# Altium integrated library Micron Memory Parallel NOR Flash.IntLib: 720 symbols (part 140 of 216)
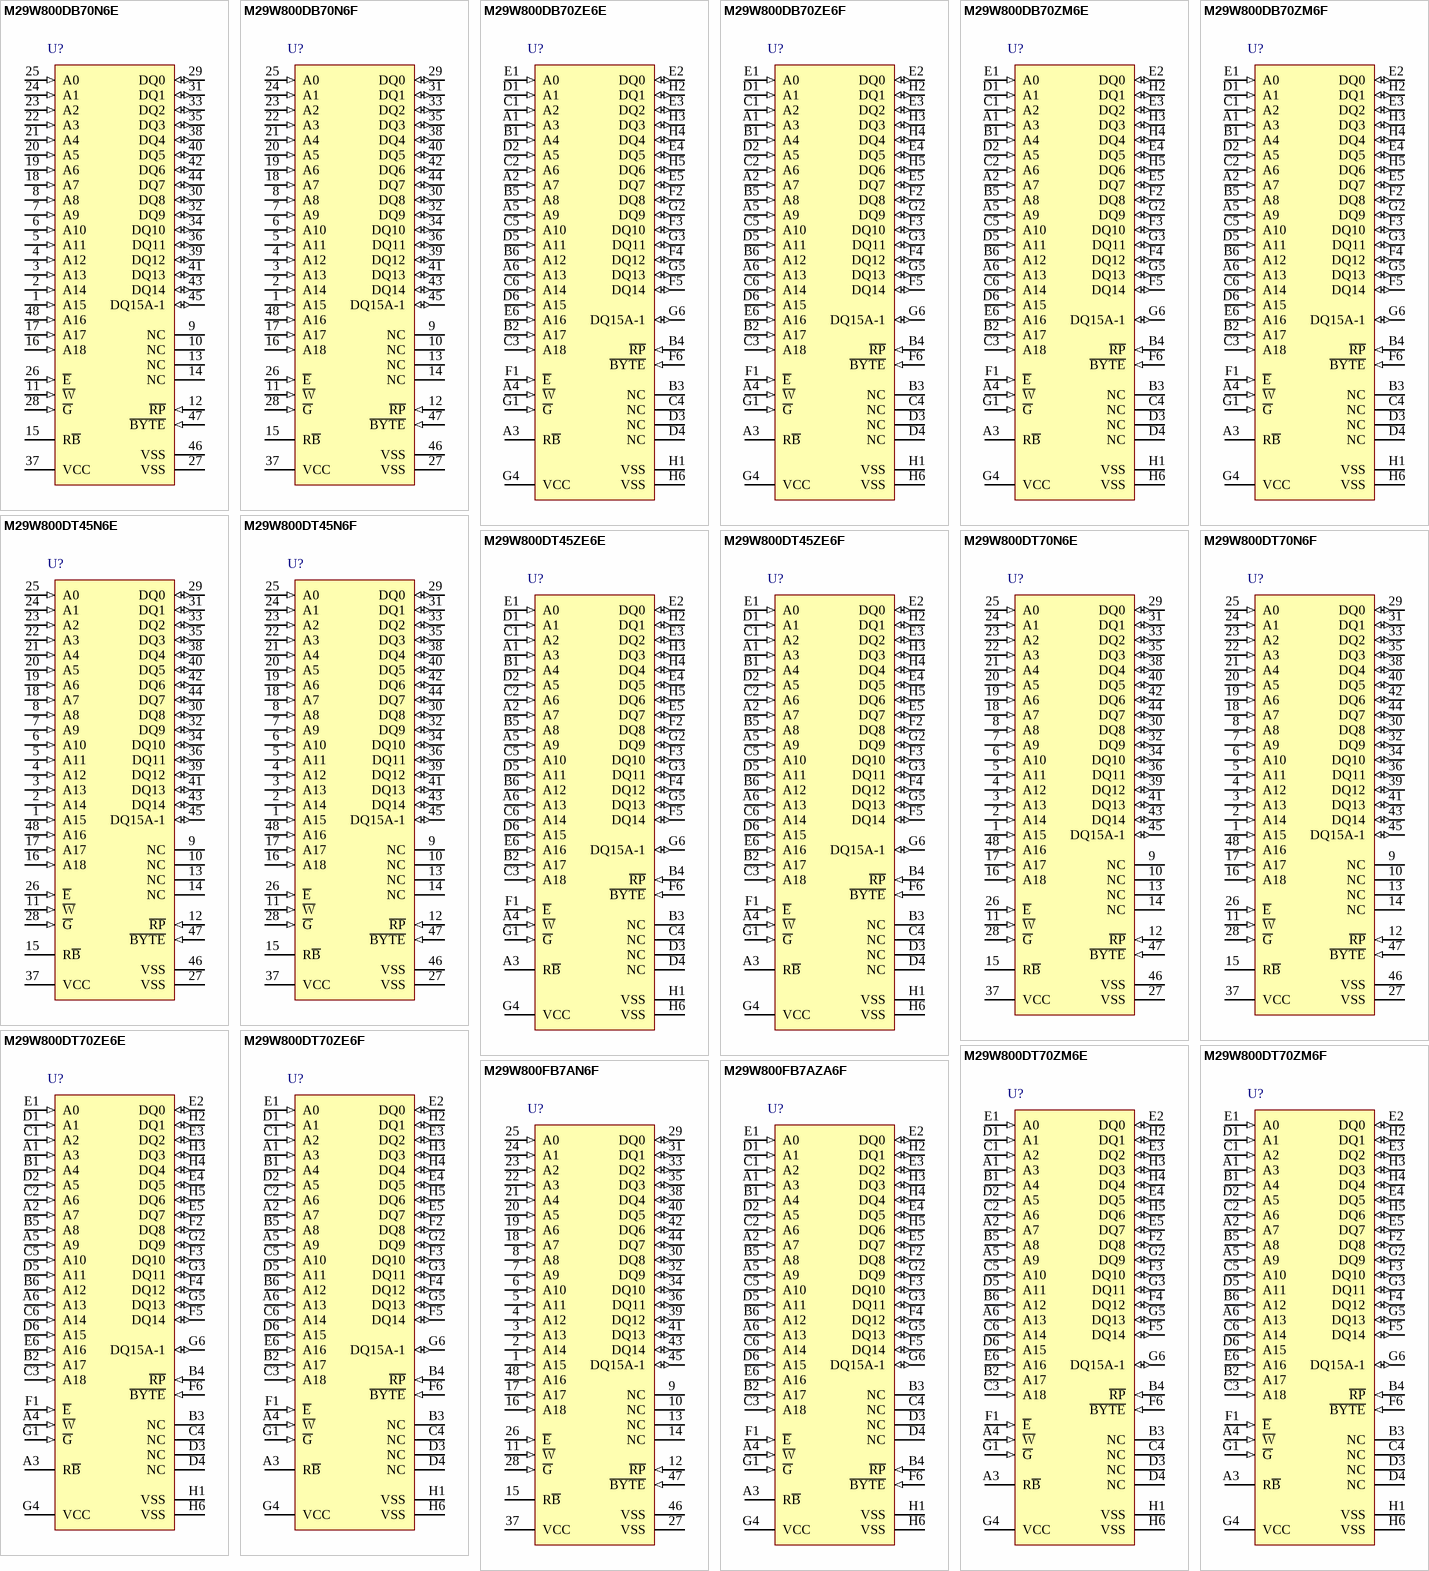
[diagram p178: symbols M29W800DB70N6E to M29W800FB7AZA6F]

## M29W800FB7AN6F
designator U?
8 Mb (x8/x16) Automotive Parallel NOR Flash Memory, 70 ns, 2.7 to 3.6 V, 48-pin TSOP (N), Tape & Reel; Part Family: M29W; Manufacturer: Micron; PartNumber: M29W800FB7AN6F; Density: 8Mb; Op Temp: -40C to +85C; Speed: 70ns; Voltage: 2.7V-3.6V; DatasheetVersion: Rev. 5; PackageVersion: Rev 11; PackageReference: MICT-N-48; PackageDescription: 48-Pin TSOP, 18.4 X 12 mm, Pitch 0.5 mm; RoHS: Yes; Width: x8/x16; Mounting Technology: Surface Mount; ComponentLink1Description: Manufacturer URL; ComponentLink1URL: http://www.micron.com/; ComponentLink2Description: Datasheet; ComponentLink2URL: http://www.micron.com/~/media/Documents/Products/Data%20Sheet/NOR%20Flash/Parallel/P33/208034_P33_65nm_SBC_64M_128M_Discrete_DS.pdf; ComponentLink3Description: Package Specification; ComponentLink3URL: http://www.micron.com/~/media/Documents/Products/Data%20Sheet/NOR%20Flash/Parallel/P30/306666_P30_130nm_Discrete_DS.pdf
footprint MICT-N-48_N (SOP, 48-Leads, Body 12x18.4mm, Pitch 0.5mm, IPC Medium Density)
pins: 1 A15 (in) "The Address Input select the cells in the memory array to access during bus read operations. During bus write operations they control the commands sent to the command interface of the internal state machine.", 2 A14 (in) "The Address Input select the cells in the memory array to access during bus read operations. During bus write operations they control the commands sent to the command interface of the internal state machine.", 3 A13 (in) "The Address Input select the cells in the memory array to access during bus read operations. During bus write operations they control the commands sent to the command interface of the internal state machine.", 4 A12 (in) "The Address Input select the cells in the memory array to access during bus read operations. During bus write operations they control the commands sent to the command interface of the internal state machine.", 5 A11 (in) "The Address Input select the cells in the memory array to access during bus read operations. During bus write operations they control the commands sent to the command interface of the internal state machine.", 6 A10 (in) "The Address Input select the cells in the memory array to access during bus read operations. During bus write operations they control the commands sent to the command interface of the internal state machine.", 7 A9 (in) "The Address Input select the cells in the memory array to access during bus read operations. During bus write operations they control the commands sent to the command interface of the internal state machine.", 8 A8 (in) "The Address Input select the cells in the memory array to access during bus read operations. During bus write operations they control the commands sent to the command interface of the internal state machine.", 9 NC "Not connected internally", 10 NC "Not connected internally", 11 ~{W} (in) "The write enable, W\, controls the bus write operation of the memory’s command interface.", 12 ~{RP} (in) "The reset/block temporary unprotect pin can be used to apply a hardware reset to the memory or to temporarily unprotect all blocks that have been protected.", 13 NC "Not connected internally", 14 NC "Not connected internally", 15 R~{B} (hiz) "The ready/busy pin is an open-drain output that can be used to identify when the device is performing a program or erase operation. During program or erase operations ready/busy is Low, VOL. Ready/busy is high-impedance (See Datasheet)", 16 A18 (in) "The Address Input select the cells in the memory array to access during bus read operations. During bus write operations they control the commands sent to the command interface of the internal state machine.", 17 A17 (in) "The Address Input select the cells in the memory array to access during bus read operations. During bus write operations they control the commands sent to the command interface of the internal state machine.", 18 A7 (in) "The Address Input select the cells in the memory array to access during bus read operations. During bus write operations they control the commands sent to the command interface of the internal state machine.", 19 A6 (in) "The Address Input select the cells in the memory array to access during bus read operations. During bus write operations they control the commands sent to the command interface of the internal state machine.", 20 A5 (in) "The Address Input select the cells in the memory array to access during bus read operations. During bus write operations they control the commands sent to the command interface of the internal state machine.", 21 A4 (in) "The Address Input select the cells in the memory array to access during bus read operations. During bus write operations they control the commands sent to the command interface of the internal state machine.", 22 A3 (in) "The Address Input select the cells in the memory array to access during bus read operations. During bus write operations they control the commands sent to the command interface of the internal state machine.", 23 A2 (in) "The Address Input select the cells in the memory array to access during bus read operations. During bus write operations they control the commands sent to the command interface of the internal state machine.", 24 A1 (in) "The Address Input select the cells in the memory array to access during bus read operations. During bus write operations they control the commands sent to the command interface of the internal state machine.", 25 A0 (in) "The Address Input select the cells in the memory array to access during bus read operations. During bus write operations they control the commands sent to the command interface of the internal state machine.", 26 ~{E} (in) "The chip enable, E\, activates the memory, allowing bus read and bus write operations to be performed. When Chip Enable is High, VIH, all other pins are ignored.", 27 VSS (power) "The VSS ground is the reference for all voltage measurements.", 28 ~{G} (in) "The output enable, G\, controls the bus read operation of the memory.", 29 DQ0 (io) "The data input/output output the data stored at the selected address during a bus read operation. During bus write operations they represent the commands sent to the command interface of the internal state machine.", 30 DQ8 (io) "The data input/output output the data stored at the selected address during a bus read operation when B\Y\T\E\ is High, VIH. When B\Y\T\E\ is Low, VIL, these pins are not used and are high impedance. During bus write (See Datasheet)", 31 DQ1 (io) "The data input/output output the data stored at the selected address during a bus read operation. During bus write operations they represent the commands sent to the command interface of the internal state machine.", 32 DQ9 (io) "The data input/output output the data stored at the selected address during a bus read operation when B\Y\T\E\ is High, VIH. When B\Y\T\E\ is Low, VIL, these pins are not used and are high impedance. During bus write (See Datasheet)", 33 DQ2 (io) "The data input/output output the data stored at the selected address during a bus read operation. During bus write operations they represent the commands sent to the command interface of the internal state machine.", 34 DQ10 (io) "The data input/output output the data stored at the selected address during a bus read operation when B\Y\T\E\ is High, VIH. When B\Y\T\E\ is Low, VIL, these pins are not used and are high impedance. During bus write (See Datasheet)", 35 DQ3 (io) "The data input/output output the data stored at the selected address during a bus read operation. During bus write operations they represent the commands sent to the command interface of the internal state machine.", 36 DQ11 (io) "The data input/output output the data stored at the selected address during a bus read operation when B\Y\T\E\ is High, VIH. When B\Y\T\E\ is Low, VIL, these pins are not used and are high impedance. During bus write (See Datasheet)", 37 VCC (power) "The VCC supply voltage supplies the power for all operations (read, program, erase etc.).", 38 DQ4 (io) "The data input/output output the data stored at the selected address during a bus read operation. During bus write operations they represent the commands sent to the command interface of the internal state machine.", 39 DQ12 (io) "The data input/output output the data stored at the selected address during a bus read operation when B\Y\T\E\ is High, VIH. When B\Y\T\E\ is Low, VIL, these pins are not used and are high impedance. During bus write (See Datasheet)", 40 DQ5 (io) "The data input/output output the data stored at the selected address during a bus read operation. During bus write operations they represent the commands sent to the command interface of the internal state machine.", 41 DQ13 (io) "The data input/output output the data stored at the selected address during a bus read operation when B\Y\T\E\ is High, VIH. When B\Y\T\E\ is Low, VIL, these pins are not used and are high impedance. During bus write (See Datasheet)", 42 DQ6 (io) "The data input/output output the data stored at the selected address during a bus read operation. During bus write operations they represent the commands sent to the command interface of the internal state machine.", 43 DQ14 (io) "The data input/output output the data stored at the selected address during a bus read operation when B\Y\T\E\ is High, VIH. When B\Y\T\E\ is Low, VIL, these pins are not used and are high impedance. During bus write (See Datasheet)", 44 DQ7 (io) "The data input/output output the data stored at the selected address during a bus read operation. During bus write operations they represent the commands sent to the command interface of the internal state machine.", 45 DQ15A-1 (io) "When B\Y\T\E\ is High, VIH, this pin behaves as a data input/output pin (as DQ8-DQ14). When B\Y\T\E\ is Low, VIL, this pin behaves as an address pin; DQ15A-1 Low will select the LSB of the word on the other addresses, (See Datasheet)", 46 VSS (power) "The VSS ground is the reference for all voltage measurements.", 47 ~{BYTE} (in) "The byte/word organization select pin is used to switch between the 8-bit and 16-bit bus modes of the memory. When byte/word organization select is Low, VIL, the memory is in 8- bit mode, when it is High, VIH, the memory is (See Datasheet)", 48 A16 (in) "The Address Input select the cells in the memory array to access during bus read operations. During bus write operations they control the commands sent to the command interface of the internal state machine."

## M29W800FB7AZA6F
designator U?
8 Mb (x8/x16) Automotive Parallel NOR Flash Memory, 70 ns, 2.7 to 3.6 V, 48-ball TFBGA (ZA), Tape & Reel; Part Family: M29W; Manufacturer: Micron; PartNumber: M29W800FB7AZA6F; Density: 8Mb; Op Temp: -40C to +85C; Speed: 70ns; Voltage: 2.7V-3.6V; DatasheetVersion: Rev. 5; PackageVersion: Rev. 11; PackageReference: MICT-ZA-48; PackageDescription: 48-Ball TFBGA, 8 X 6 mm, Pitch 0.8 mm; RoHS: Yes; Width: x8/x16; Mounting Technology: Surface Mount; ComponentLink1Description: Manufacturer URL; ComponentLink1URL: http://www.micron.com/; ComponentLink2Description: Datasheet; ComponentLink2URL: http://www.micron.com/~/media/Documents/Products/Data%20Sheet/NOR%20Flash/Parallel/P33/208034_P33_65nm_SBC_64M_128M_Discrete_DS.pdf; ComponentLink3Description: Package Specification; ComponentLink3URL: http://www.micron.com/~/media/Documents/Products/Data%20Sheet/NOR%20Flash/Parallel/P33/208034_P33_65nm_SBC_64M_128M_Discrete_DS.pdf
footprint MICT-ZA-48 (BGA, 48-Balls, Body 8x6 mm, Pitch 0.8 mm)
pins: A1 A3 (in) "The address input select the cells in the memory array to access during bus read operations. During bus write operations they control the commands sent to the command interface of the internal state machine.", A2 A7 (in) "The address input select the cells in the memory array to access during bus read operations. During bus write operations they control the commands sent to the command interface of the internal state machine.", A3 R~{B} (hiz) "The Ready/Busy pin is an open-drain output that can be used to identify when the device is performing a program or erase operation. During program or erase operations Ready/Busy is Low, VOL. Ready/Busy is high-impedance (See Datasheet)", A4 ~{W} (in) "The Write Enable, W\, controls the bus write operation of the memory’s command interface.", A5 A9 (in) "The address input select the cells in the memory array to access during bus read operations. During bus write operations they control the commands sent to the command interface of the internal state machine.", A6 A13 (in) "The address input select the cells in the memory array to access during bus read operations. During bus write operations they control the commands sent to the command interface of the internal state machine.", B1 A4 (in) "The address input select the cells in the memory array to access during bus read operations. During bus write operations they control the commands sent to the command interface of the internal state machine.", B2 A17 (in) "The address input select the cells in the memory array to access during bus read operations. During bus write operations they control the commands sent to the command interface of the internal state machine.", B3 NC "Not connected internally", B4 ~{RP} (in) "The Reset/Block Temporary Unprotect pin can be used to apply a hardware reset to the memory or to temporarily unprotect all blocks that have been protected. A hardware reset is achieved by holding Reset/Block Temporary (See Datasheet)", B5 A8 (in) "The address input select the cells in the memory array to access during bus read operations. During bus write operations they control the commands sent to the command interface of the internal state machine.", B6 A12 (in) "The address input select the cells in the memory array to access during bus read operations. During bus write operations they control the commands sent to the command interface of the internal state machine.", C1 A2 (in) "The address input select the cells in the memory array to access during bus read operations. During bus write operations they control the commands sent to the command interface of the internal state machine.", C2 A6 (in) "The address input select the cells in the memory array to access during bus read operations. During bus write operations they control the commands sent to the command interface of the internal state machine.", C3 A18 (in) "The address input select the cells in the memory array to access during bus read operations. During bus write operations they control the commands sent to the command interface of the internal state machine.", C4 NC "Not connected internally", C5 A10 (in) "The address input select the cells in the memory array to access during bus read operations. During bus write operations they control the commands sent to the command interface of the internal state machine.", C6 A14 (in) "The address input select the cells in the memory array to access during bus read operations. During bus write operations they control the commands sent to the command interface of the internal state machine.", D1 A1 (in) "The address Input select the cells in the memory array to access during bus read operations. During bus write operations they control the commands sent to the command interface of the internal state machine.", D2 A5 (in) "The address input select the cells in the memory array to access during bus read operations. During bus write operations they control the commands sent to the command interface of the internal state machine.", D3 NC "Not connected internally", D4 NC "Not connected internally", D5 A11 (in) "The address input select the cells in the memory array to access during bus read operations. During bus write operations they control the commands sent to the command interface of the internal state machine.", D6 A15 (in) "The address input select the cells in the memory array to access during bus read operations. During bus write operations they control the commands sent to the command interface of the internal state machine.", E1 A0 (in) "The address input select the cells in the memory array to access during bus read operations. During bus write operations they control the commands sent to the command interface of the internal state machine.", E2 DQ0 (io) "The data input/output output the data stored at the selected address during a bus read operation. During bus write operations they represent the commands sent to the command interface of the internal state machine.", E3 DQ2 (io) "The data input/output output the data stored at the selected address during a bus read operation. During bus write operations they represent the commands sent to the command interface of the internal state machine.", E4 DQ5 (io) "The data input/output output the data stored at the selected address during a bus read operation. During bus write operations they represent the commands sent to the command interface of the internal state machine.", E5 DQ7 (io) "The data input/output output the data stored at the selected address during a bus read operation. During bus write operations they represent the commands sent to the command interface of the internal state machine.", E6 A16 (in) "The address input select the cells in the memory array to access during bus read operations. During bus write operations they control the commands sent to the command interface of the internal state machine.", F1 ~{E} (in) "The Chip Enable, E\, activates the memory, allowing bus read and bus write operations to be performed. When Chip Enable is High, VIH, all other pins are ignored.", F2 DQ8 (io) "The data input/output output the data stored at the selected address during a bus read operation when B\Y\T\E\ is High, VIH. When B\Y\T\E \is Low, VIL, these pins are not used and are high impedance. During bus write (See Datasheet)", F3 DQ10 (io) "The data input/output output the data stored at the selected address during a bus read operation when B\Y\T\E\ is High, VIH. When B\Y\T\E \is Low, VIL, these pins are not used and are high impedance. During bus write (See Datasheet)", F4 DQ12 (io) "The data input/output output the data stored at the selected address during a bus read operation when B\Y\T\E\ is High, VIH. When B\Y\T\E \is Low, VIL, these pins are not used and are high impedance. During bus write (See Datasheet)", F5 DQ14 (io) "The data input/output output the data stored at the selected address during a bus read operation when B\Y\T\E\ is High, VIH. When B\Y\T\E \is Low, VIL, these pins are not used and are high impedance. During bus write (See Datasheet)", F6 ~{BYTE} (in) "The Byte/Word Organization Select pin is used to switch between the 8-bit and 16-bit bus modes of the memory. When Byte/Word Organization Select is Low, VIL, the memory is in 8- bit mode, when it is High, VIH, the memory is (See Datasheet)", G1 ~{G} (in) "The Output Enable, G\, controls the bus read operation of the memory.", G2 DQ9 (io) "The data input/output output the data stored at the selected address during a bus read operation when B\Y\T\E\ is High, VIH. When B\Y\T\E \is Low, VIL, these pins are not used and are high impedance. During bus write (See Datasheet)", G3 DQ11 (io) "The data input/output output the data stored at the selected address during a bus read operation when B\Y\T\E\ is High, VIH. When B\Y\T\E \is Low, VIL, these pins are not used and are high impedance. During bus write (See Datasheet)", G4 VCC (power) "The VCC supply voltage supplies the power for all operations (read, program, erase etc.). The command interface is disabled when the VCC supply voltage is less than the lockout voltage, VLKO. This prevents bus write (See Datasheet)", G5 DQ13 (io) "The data input/output output the data stored at the selected address during a bus read operation when B\Y\T\E\ is High, VIH. When B\Y\T\E \is Low, VIL, these pins are not used and are high impedance. During bus write (See Datasheet)", G6 DQ15A-1 (io) "When B\Y\T\E\ is High, VIH, this pin behaves as a data input/output pin (as DQ8-DQ14). When B\Y\T\E\ is Low, VIL, this pin behaves as an address pin; DQ15A-1 Low will select the LSB of the word on the other addresses, (See Datasheet)", H1 VSS (power) "The VSS ground is the reference for all voltage measurements.", H2 DQ1 (io) "The data input/output output the data stored at the selected address during a bus read operation. During bus write operations they represent the commands sent to the command interface of the internal state machine.", H3 DQ3 (io) "The data input/output output the data stored at the selected address during a bus read operation. During bus write operations they represent the commands sent to the command interface of the internal state machine.", H4 DQ4 (io) "The data input/output output the data stored at the selected address during a bus read operation. During bus write operations they represent the commands sent to the command interface of the internal state machine.", H5 DQ6 (io) "The data input/output output the data stored at the selected address during a bus read operation. During bus write operations they represent the commands sent to the command interface of the internal state machine.", H6 VSS (power) "The VSS ground is the reference for all voltage measurements."

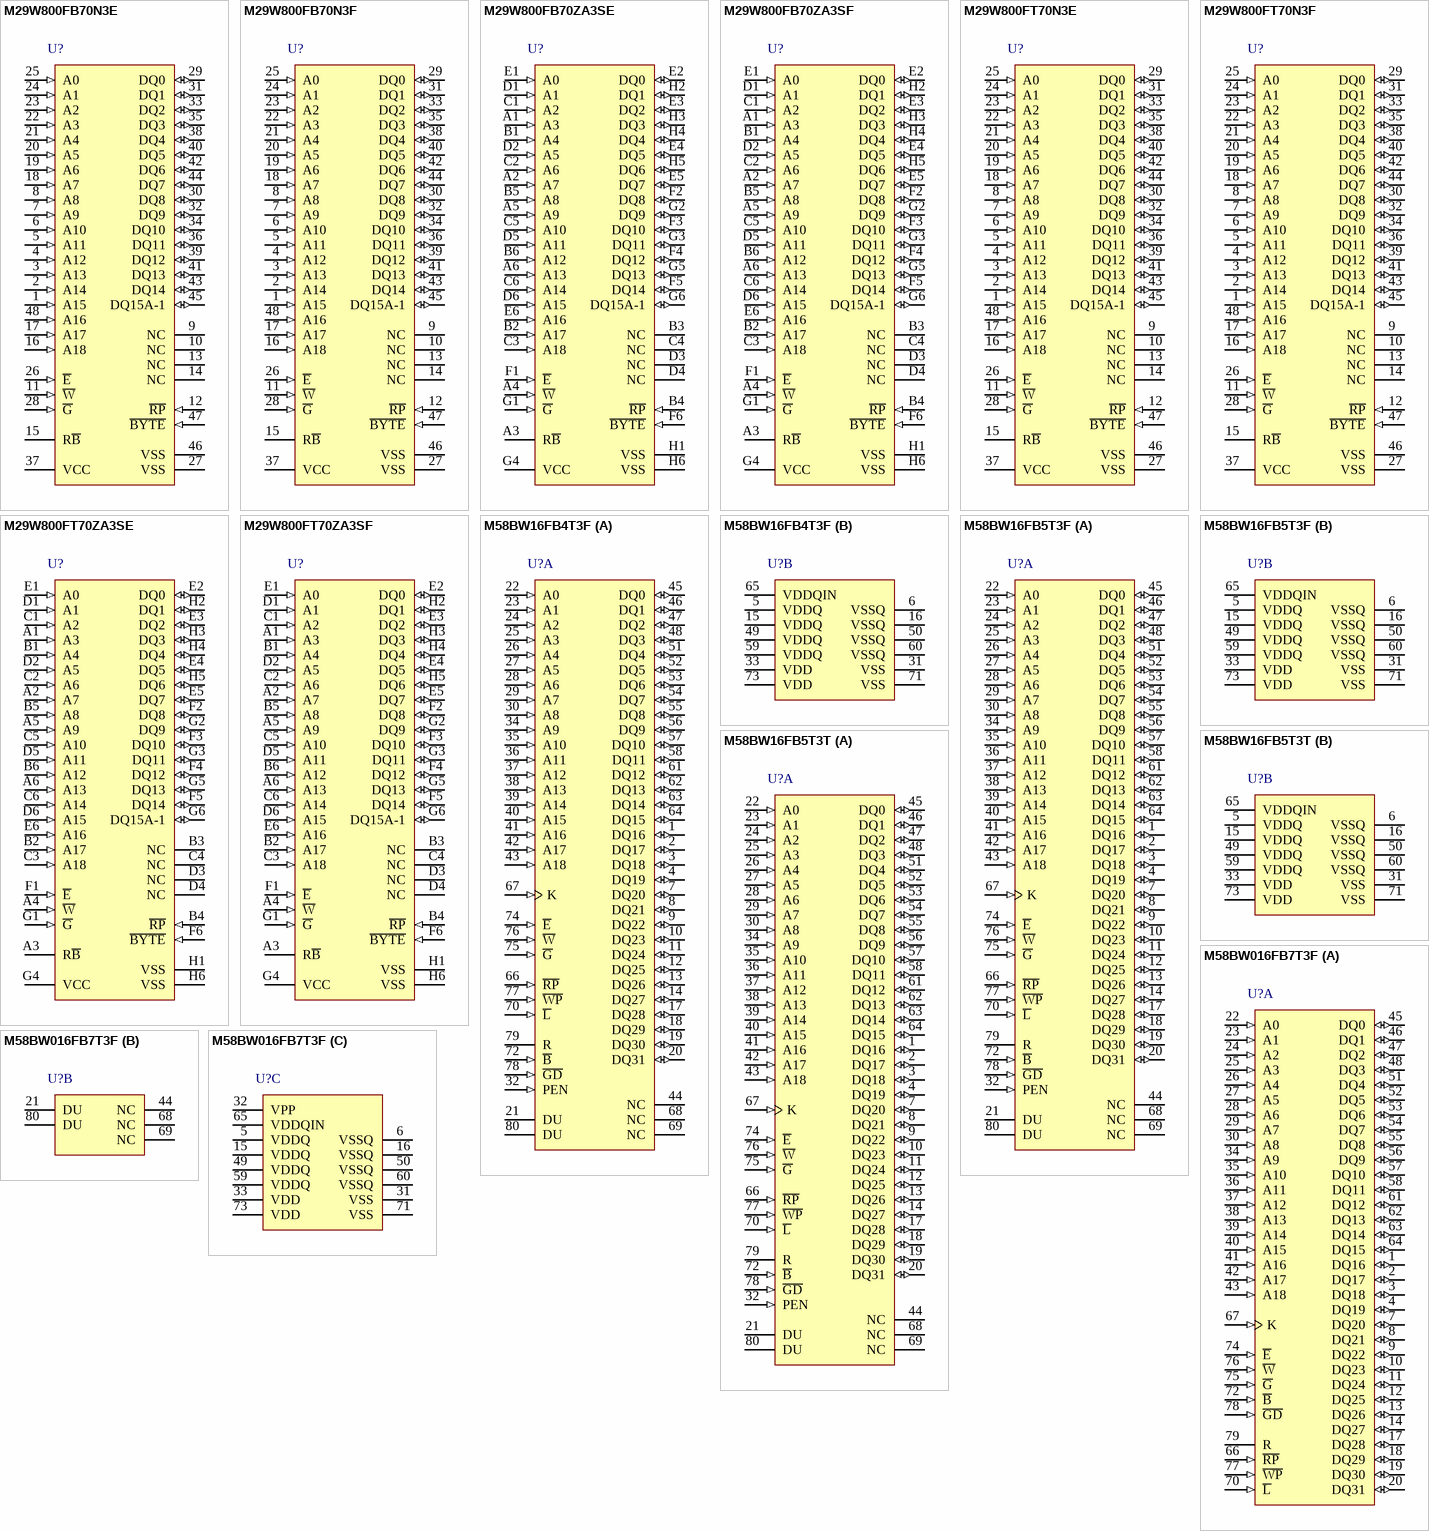
[diagram p37: symbols M29W800FB70N3E to M58BW016FB7T3F]

## M29W800FB70N3E
designator U?
8 Mb (x8/x16) Automotive Parallel NOR Flash Memory, 70 ns, 2.7 to 3.6 V, 48-pin TSOP (N), Tray; Part Family: M29W; Manufacturer: Micron; PartNumber: M29W800FB70N3E; Density: 8Mb; Op Temp: -40C to +125C; Speed: 70ns; Voltage: 2.7V-3.6V; DatasheetVersion: Rev. 5; PackageVersion: Rev 11; PackageReference: MICT-N-48; PackageDescription: 48-Pin TSOP, 18.4 X 12 mm, Pitch 0.5 mm; RoHS: Yes; Width: x8/x16; Mounting Technology: Surface Mount; ComponentLink1Description: Manufacturer URL; ComponentLink1URL: http://www.micron.com/; ComponentLink2Description: Datasheet; ComponentLink2URL: http://www.micron.com/~/media/Documents/Products/Data%20Sheet/NOR%20Flash/Parallel/P33/208034_P33_65nm_SBC_64M_128M_Discrete_DS.pdf; ComponentLink3Description: Package Specification; ComponentLink3URL: http://www.micron.com/~/media/Documents/Products/Data%20Sheet/NOR%20Flash/Parallel/P30/306666_P30_130nm_Discrete_DS.pdf
footprint MICT-N-48_N (SOP, 48-Leads, Body 12x18.4mm, Pitch 0.5mm, IPC Medium Density)
pins: 1 A15 (in) "The Address Input select the cells in the memory array to access during bus read operations. During bus write operations they control the commands sent to the command interface of the internal state machine.", 2 A14 (in) "The Address Input select the cells in the memory array to access during bus read operations. During bus write operations they control the commands sent to the command interface of the internal state machine.", 3 A13 (in) "The Address Input select the cells in the memory array to access during bus read operations. During bus write operations they control the commands sent to the command interface of the internal state machine.", 4 A12 (in) "The Address Input select the cells in the memory array to access during bus read operations. During bus write operations they control the commands sent to the command interface of the internal state machine.", 5 A11 (in) "The Address Input select the cells in the memory array to access during bus read operations. During bus write operations they control the commands sent to the command interface of the internal state machine.", 6 A10 (in) "The Address Input select the cells in the memory array to access during bus read operations. During bus write operations they control the commands sent to the command interface of the internal state machine.", 7 A9 (in) "The Address Input select the cells in the memory array to access during bus read operations. During bus write operations they control the commands sent to the command interface of the internal state machine.", 8 A8 (in) "The Address Input select the cells in the memory array to access during bus read operations. During bus write operations they control the commands sent to the command interface of the internal state machine.", 9 NC "Not connected internally", 10 NC "Not connected internally", 11 ~{W} (in) "The write enable, W\, controls the bus write operation of the memory’s command interface.", 12 ~{RP} (in) "The reset/block temporary unprotect pin can be used to apply a hardware reset to the memory or to temporarily unprotect all blocks that have been protected.", 13 NC "Not connected internally", 14 NC "Not connected internally", 15 R~{B} (hiz) "The ready/busy pin is an open-drain output that can be used to identify when the device is performing a program or erase operation. During program or erase operations ready/busy is Low, VOL. Ready/busy is high-impedance (See Datasheet)", 16 A18 (in) "The Address Input select the cells in the memory array to access during bus read operations. During bus write operations they control the commands sent to the command interface of the internal state machine.", 17 A17 (in) "The Address Input select the cells in the memory array to access during bus read operations. During bus write operations they control the commands sent to the command interface of the internal state machine.", 18 A7 (in) "The Address Input select the cells in the memory array to access during bus read operations. During bus write operations they control the commands sent to the command interface of the internal state machine.", 19 A6 (in) "The Address Input select the cells in the memory array to access during bus read operations. During bus write operations they control the commands sent to the command interface of the internal state machine.", 20 A5 (in) "The Address Input select the cells in the memory array to access during bus read operations. During bus write operations they control the commands sent to the command interface of the internal state machine.", 21 A4 (in) "The Address Input select the cells in the memory array to access during bus read operations. During bus write operations they control the commands sent to the command interface of the internal state machine.", 22 A3 (in) "The Address Input select the cells in the memory array to access during bus read operations. During bus write operations they control the commands sent to the command interface of the internal state machine.", 23 A2 (in) "The Address Input select the cells in the memory array to access during bus read operations. During bus write operations they control the commands sent to the command interface of the internal state machine.", 24 A1 (in) "The Address Input select the cells in the memory array to access during bus read operations. During bus write operations they control the commands sent to the command interface of the internal state machine.", 25 A0 (in) "The Address Input select the cells in the memory array to access during bus read operations. During bus write operations they control the commands sent to the command interface of the internal state machine.", 26 ~{E} (in) "The chip enable, E\, activates the memory, allowing bus read and bus write operations to be performed. When Chip Enable is High, VIH, all other pins are ignored.", 27 VSS (power) "The VSS ground is the reference for all voltage measurements.", 28 ~{G} (in) "The output enable, G\, controls the bus read operation of the memory.", 29 DQ0 (io) "The data input/output output the data stored at the selected address during a bus read operation. During bus write operations they represent the commands sent to the command interface of the internal state machine.", 30 DQ8 (io) "The data input/output output the data stored at the selected address during a bus read operation when B\Y\T\E\ is High, VIH. When B\Y\T\E\ is Low, VIL, these pins are not used and are high impedance. During bus write (See Datasheet)", 31 DQ1 (io) "The data input/output output the data stored at the selected address during a bus read operation. During bus write operations they represent the commands sent to the command interface of the internal state machine.", 32 DQ9 (io) "The data input/output output the data stored at the selected address during a bus read operation when B\Y\T\E\ is High, VIH. When B\Y\T\E\ is Low, VIL, these pins are not used and are high impedance. During bus write (See Datasheet)", 33 DQ2 (io) "The data input/output output the data stored at the selected address during a bus read operation. During bus write operations they represent the commands sent to the command interface of the internal state machine.", 34 DQ10 (io) "The data input/output output the data stored at the selected address during a bus read operation when B\Y\T\E\ is High, VIH. When B\Y\T\E\ is Low, VIL, these pins are not used and are high impedance. During bus write (See Datasheet)", 35 DQ3 (io) "The data input/output output the data stored at the selected address during a bus read operation. During bus write operations they represent the commands sent to the command interface of the internal state machine.", 36 DQ11 (io) "The data input/output output the data stored at the selected address during a bus read operation when B\Y\T\E\ is High, VIH. When B\Y\T\E\ is Low, VIL, these pins are not used and are high impedance. During bus write (See Datasheet)", 37 VCC (power) "The VCC supply voltage supplies the power for all operations (read, program, erase etc.).", 38 DQ4 (io) "The data input/output output the data stored at the selected address during a bus read operation. During bus write operations they represent the commands sent to the command interface of the internal state machine.", 39 DQ12 (io) "The data input/output output the data stored at the selected address during a bus read operation when B\Y\T\E\ is High, VIH. When B\Y\T\E\ is Low, VIL, these pins are not used and are high impedance. During bus write (See Datasheet)", 40 DQ5 (io) "The data input/output output the data stored at the selected address during a bus read operation. During bus write operations they represent the commands sent to the command interface of the internal state machine.", 41 DQ13 (io) "The data input/output output the data stored at the selected address during a bus read operation when B\Y\T\E\ is High, VIH. When B\Y\T\E\ is Low, VIL, these pins are not used and are high impedance. During bus write (See Datasheet)", 42 DQ6 (io) "The data input/output output the data stored at the selected address during a bus read operation. During bus write operations they represent the commands sent to the command interface of the internal state machine.", 43 DQ14 (io) "The data input/output output the data stored at the selected address during a bus read operation when B\Y\T\E\ is High, VIH. When B\Y\T\E\ is Low, VIL, these pins are not used and are high impedance. During bus write (See Datasheet)", 44 DQ7 (io) "The data input/output output the data stored at the selected address during a bus read operation. During bus write operations they represent the commands sent to the command interface of the internal state machine.", 45 DQ15A-1 (io) "When B\Y\T\E\ is High, VIH, this pin behaves as a data input/output pin (as DQ8-DQ14). When B\Y\T\E\ is Low, VIL, this pin behaves as an address pin; DQ15A-1 Low will select the LSB of the word on the other addresses, (See Datasheet)", 46 VSS (power) "The VSS ground is the reference for all voltage measurements.", 47 ~{BYTE} (in) "The byte/word organization select pin is used to switch between the 8-bit and 16-bit bus modes of the memory. When byte/word organization select is Low, VIL, the memory is in 8- bit mode, when it is High, VIH, the memory is (See Datasheet)", 48 A16 (in) "The Address Input select the cells in the memory array to access during bus read operations. During bus write operations they control the commands sent to the command interface of the internal state machine."

## M29W800FB70N3F
designator U?
8 Mb (x8/x16) Automotive Parallel NOR Flash Memory, 70 ns, 2.7 to 3.6 V, 48-pin TSOP (N), Tape & Reel; Part Family: M29W; Manufacturer: Micron; PartNumber: M29W800FB70N3F; Density: 8Mb; Op Temp: -40C to +125C; Speed: 70ns; Voltage: 2.7V-3.6V; DatasheetVersion: Rev. 5; PackageVersion: Rev 11; PackageReference: MICT-N-48; PackageDescription: 48-Pin TSOP, 18.4 X 12 mm, Pitch 0.5 mm; RoHS: Yes; Width: x8/x16; Mounting Technology: Surface Mount; ComponentLink1Description: Manufacturer URL; ComponentLink1URL: http://www.micron.com/; ComponentLink2Description: Datasheet; ComponentLink2URL: http://www.micron.com/~/media/Documents/Products/Data%20Sheet/NOR%20Flash/Parallel/P33/208034_P33_65nm_SBC_64M_128M_Discrete_DS.pdf; ComponentLink3Description: Package Specification; ComponentLink3URL: http://www.micron.com/~/media/Documents/Products/Data%20Sheet/NOR%20Flash/Parallel/P30/306666_P30_130nm_Discrete_DS.pdf
footprint MICT-N-48_N (SOP, 48-Leads, Body 12x18.4mm, Pitch 0.5mm, IPC Medium Density)
pins: 1 A15 (in) "The Address Input select the cells in the memory array to access during bus read operations. During bus write operations they control the commands sent to the command interface of the internal state machine.", 2 A14 (in) "The Address Input select the cells in the memory array to access during bus read operations. During bus write operations they control the commands sent to the command interface of the internal state machine.", 3 A13 (in) "The Address Input select the cells in the memory array to access during bus read operations. During bus write operations they control the commands sent to the command interface of the internal state machine.", 4 A12 (in) "The Address Input select the cells in the memory array to access during bus read operations. During bus write operations they control the commands sent to the command interface of the internal state machine.", 5 A11 (in) "The Address Input select the cells in the memory array to access during bus read operations. During bus write operations they control the commands sent to the command interface of the internal state machine.", 6 A10 (in) "The Address Input select the cells in the memory array to access during bus read operations. During bus write operations they control the commands sent to the command interface of the internal state machine.", 7 A9 (in) "The Address Input select the cells in the memory array to access during bus read operations. During bus write operations they control the commands sent to the command interface of the internal state machine.", 8 A8 (in) "The Address Input select the cells in the memory array to access during bus read operations. During bus write operations they control the commands sent to the command interface of the internal state machine.", 9 NC "Not connected internally", 10 NC "Not connected internally", 11 ~{W} (in) "The write enable, W\, controls the bus write operation of the memory’s command interface.", 12 ~{RP} (in) "The reset/block temporary unprotect pin can be used to apply a hardware reset to the memory or to temporarily unprotect all blocks that have been protected.", 13 NC "Not connected internally", 14 NC "Not connected internally", 15 R~{B} (hiz) "The ready/busy pin is an open-drain output that can be used to identify when the device is performing a program or erase operation. During program or erase operations ready/busy is Low, VOL. Ready/busy is high-impedance (See Datasheet)", 16 A18 (in) "The Address Input select the cells in the memory array to access during bus read operations. During bus write operations they control the commands sent to the command interface of the internal state machine.", 17 A17 (in) "The Address Input select the cells in the memory array to access during bus read operations. During bus write operations they control the commands sent to the command interface of the internal state machine.", 18 A7 (in) "The Address Input select the cells in the memory array to access during bus read operations. During bus write operations they control the commands sent to the command interface of the internal state machine.", 19 A6 (in) "The Address Input select the cells in the memory array to access during bus read operations. During bus write operations they control the commands sent to the command interface of the internal state machine.", 20 A5 (in) "The Address Input select the cells in the memory array to access during bus read operations. During bus write operations they control the commands sent to the command interface of the internal state machine.", 21 A4 (in) "The Address Input select the cells in the memory array to access during bus read operations. During bus write operations they control the commands sent to the command interface of the internal state machine.", 22 A3 (in) "The Address Input select the cells in the memory array to access during bus read operations. During bus write operations they control the commands sent to the command interface of the internal state machine.", 23 A2 (in) "The Address Input select the cells in the memory array to access during bus read operations. During bus write operations they control the commands sent to the command interface of the internal state machine.", 24 A1 (in) "The Address Input select the cells in the memory array to access during bus read operations. During bus write operations they control the commands sent to the command interface of the internal state machine.", 25 A0 (in) "The Address Input select the cells in the memory array to access during bus read operations. During bus write operations they control the commands sent to the command interface of the internal state machine.", 26 ~{E} (in) "The chip enable, E\, activates the memory, allowing bus read and bus write operations to be performed. When Chip Enable is High, VIH, all other pins are ignored.", 27 VSS (power) "The VSS ground is the reference for all voltage measurements.", 28 ~{G} (in) "The output enable, G\, controls the bus read operation of the memory.", 29 DQ0 (io) "The data input/output output the data stored at the selected address during a bus read operation. During bus write operations they represent the commands sent to the command interface of the internal state machine.", 30 DQ8 (io) "The data input/output output the data stored at the selected address during a bus read operation when B\Y\T\E\ is High, VIH. When B\Y\T\E\ is Low, VIL, these pins are not used and are high impedance. During bus write (See Datasheet)", 31 DQ1 (io) "The data input/output output the data stored at the selected address during a bus read operation. During bus write operations they represent the commands sent to the command interface of the internal state machine.", 32 DQ9 (io) "The data input/output output the data stored at the selected address during a bus read operation when B\Y\T\E\ is High, VIH. When B\Y\T\E\ is Low, VIL, these pins are not used and are high impedance. During bus write (See Datasheet)", 33 DQ2 (io) "The data input/output output the data stored at the selected address during a bus read operation. During bus write operations they represent the commands sent to the command interface of the internal state machine.", 34 DQ10 (io) "The data input/output output the data stored at the selected address during a bus read operation when B\Y\T\E\ is High, VIH. When B\Y\T\E\ is Low, VIL, these pins are not used and are high impedance. During bus write (See Datasheet)", 35 DQ3 (io) "The data input/output output the data stored at the selected address during a bus read operation. During bus write operations they represent the commands sent to the command interface of the internal state machine.", 36 DQ11 (io) "The data input/output output the data stored at the selected address during a bus read operation when B\Y\T\E\ is High, VIH. When B\Y\T\E\ is Low, VIL, these pins are not used and are high impedance. During bus write (See Datasheet)", 37 VCC (power) "The VCC supply voltage supplies the power for all operations (read, program, erase etc.).", 38 DQ4 (io) "The data input/output output the data stored at the selected address during a bus read operation. During bus write operations they represent the commands sent to the command interface of the internal state machine.", 39 DQ12 (io) "The data input/output output the data stored at the selected address during a bus read operation when B\Y\T\E\ is High, VIH. When B\Y\T\E\ is Low, VIL, these pins are not used and are high impedance. During bus write (See Datasheet)", 40 DQ5 (io) "The data input/output output the data stored at the selected address during a bus read operation. During bus write operations they represent the commands sent to the command interface of the internal state machine.", 41 DQ13 (io) "The data input/output output the data stored at the selected address during a bus read operation when B\Y\T\E\ is High, VIH. When B\Y\T\E\ is Low, VIL, these pins are not used and are high impedance. During bus write (See Datasheet)", 42 DQ6 (io) "The data input/output output the data stored at the selected address during a bus read operation. During bus write operations they represent the commands sent to the command interface of the internal state machine.", 43 DQ14 (io) "The data input/output output the data stored at the selected address during a bus read operation when B\Y\T\E\ is High, VIH. When B\Y\T\E\ is Low, VIL, these pins are not used and are high impedance. During bus write (See Datasheet)", 44 DQ7 (io) "The data input/output output the data stored at the selected address during a bus read operation. During bus write operations they represent the commands sent to the command interface of the internal state machine.", 45 DQ15A-1 (io) "When B\Y\T\E\ is High, VIH, this pin behaves as a data input/output pin (as DQ8-DQ14). When B\Y\T\E\ is Low, VIL, this pin behaves as an address pin; DQ15A-1 Low will select the LSB of the word on the other addresses, (See Datasheet)", 46 VSS (power) "The VSS ground is the reference for all voltage measurements.", 47 ~{BYTE} (in) "The byte/word organization select pin is used to switch between the 8-bit and 16-bit bus modes of the memory. When byte/word organization select is Low, VIL, the memory is in 8- bit mode, when it is High, VIH, the memory is (See Datasheet)", 48 A16 (in) "The Address Input select the cells in the memory array to access during bus read operations. During bus write operations they control the commands sent to the command interface of the internal state machine."